# Altium footprint library SamacSys.PcbLib: 8 footprints
Each footprint in its own frame and in the unit in brackets; x right, y up, seen from the top. Pads: shape width x height; smd on the part's side, far side on the other; paste and mask are expansions set on the pad; w line width, h text height; cw(c..) or ccw(c..) is an arc to the next point about the centre after c.
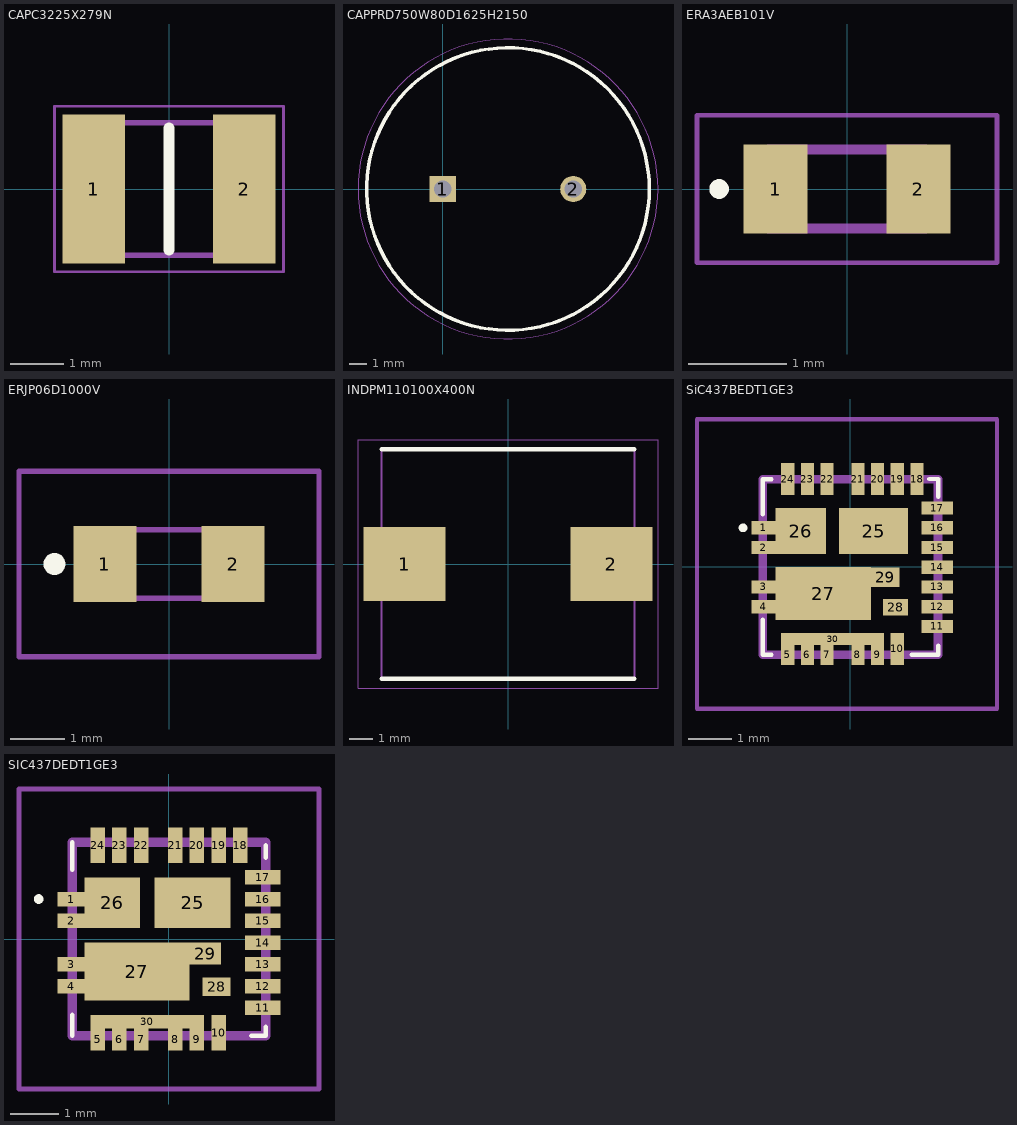
[diagram p0: the footprints below, top view; thin cyan lines are the x and y axes]

## CAPC3225X279N [mm]
pads (2):
  rect 1.18x2.82 smd: 1(-1.42,0) 2(1.42,0)
Top Overlay:
  lines w0.2: 0,-1.15 0,1.15
Mechanical 13:
  lines w0.1: -1.6,-1.25 1.6,-1.25 1.6,1.25 -1.6,1.25 -1.6,-1.25
Mechanical 15:
  lines w0.05: -2.16,-1.56 2.16,-1.56 2.16,1.56 -2.16,1.56 -2.16,-1.56
3D body "1210YD476KAT4A.stp": height 2.79, standoff 0, extent -1.6,-1.25 1.6,1.25

## CAPPRD750W80D1625H2150 [mm]
pads (2):
  rect 1.5x1.5 hole 1: 1(0,0)
  round 1.5 hole 1: 2(7.5,0)
Top Overlay:
  circle w0.2: c3.75,0 r8.125
Mechanical 13:
  circle w0.1: c3.75,0 r8.125
Mechanical 15:
  circle w0.05: c3.75,0 r8.625
3D body "UCS2C151MHD.stp": height 21.5, standoff -10, extent -4.5,-8.238 12,8.238

## ERA3AEB101V [mm]
pads (2):
  rect 0.65x0.9 smd: 1(-0.725,0) 2(0.725,0)
Top Overlay:
  lines w0.1: -1.3,-0.05 ccw(c-1.3,0) -1.3,0.05 ccw(c-1.3,0) -1.3,-0.05
Mechanical 13:
  lines w0.1: -0.8,-0.4 -0.8,0.4 0.8,0.4 0.8,-0.4 -0.8,-0.4
Mechanical 15:
  lines w0.05: -1.525,-0.75 -1.525,0.75 1.525,0.75 1.525,-0.75 -1.525,-0.75
3D body "ERA-3AED104V.stp": height 0.45, standoff 0, extent -0.8,-0.4 0.8,0.4

## ERJP06D1000V [mm]
pads (2):
  rect 1.15x1.4 smd: 1(-1.175,0) 2(1.175,0)
Top Overlay:
  lines w0.2: -2.1,-0.1 ccw(c-2.1,0) -2.1,0.1 ccw(c-2.1,0) -2.1,-0.1
Mechanical 13:
  lines w0.1: -1,-0.625 -1,0.625 1,0.625 1,-0.625 -1,-0.625
Mechanical 15:
  lines w0.1: -2.75,-1.7 -2.75,1.7 2.75,1.7 2.75,-1.7 -2.75,-1.7
3D body "ERJ-P06F5623V.stp": height 0.6, standoff 0, extent -1,-0.625 1,0.625

## INDPM110100X400N [mm]
pads (2):
  rect 3.55x3.2 smd: 1(-4.5,0) 2(4.5,0)
Top Overlay:
  lines w0.2: -5.5,-5 5.5,-5 ; -5.5,5 5.5,5
Mechanical 13:
  lines w0.1: -5.5,-5 -5.5,5 5.5,5 5.5,-5 -5.5,-5
Mechanical 15:
  lines w0.05: -6.525,-5.4 -6.525,5.4 6.525,5.4 6.525,-5.4 -6.525,-5.4
3D body "SRP1038CC-2R2M.stp": height 4, standoff 0, extent -5.5,-5 5.5,5

## PCBComponent_1 [mm]

## SiC437BEDT1GE3 [mm]
pads (30):
  rect 0.55x0.3 smd: 1(-1.981,0.894) 2(-1.981,0.444) 3(-1.981,-0.456) 4(-1.981,-0.906)
  rect 0.3x0.45 smd: 5(-1.431,-2.006) 6(-0.981,-2.006) 7(-0.531,-2.006) 8(0.169,-2.006) 9(0.619,-2.006)
  rect 0.3x0.725 smd: 10(1.069,-1.869) 18(1.519,2.006) 19(1.069,2.006) 20(0.619,2.006) 21(0.169,2.006) 22(-0.531,2.006) 23(-0.981,2.006) 24(-1.431,2.006)
  rect 0.725x0.3 smd: 11(1.981,-1.356) 12(1.981,-0.906) 13(1.981,-0.456) 14(1.981,-0.006) 15(1.981,0.444) 16(1.981,0.894) 17(1.981,1.344)
  rect 1.575x1.05 smd: 25(0.531,0.819)
  rect 1.15x1.05 smd: 26(-1.131,0.819)
  rect 2.175x1.2 smd: 27(-0.619,-0.606)
  rect 0.58x0.38 smd: 28(1.029,-0.921)
  rect 0.65x0.455 smd: 29(0.794,-0.234)
  rect 2.35x0.275 smd: 30(-0.406,-1.644)
Top Overlay:
  lines w0.1: -2,-1.2 -2,-2.006 -1.8,-2.006 ; -2,1.2 -2,2 -1.8,2 ; 1.4,-2.006 2,-2.006 2,-1.8 ; 1.8,2.006 2,2.006 2,1.6 ; -2.5,0.894 ccw(c-2.45,0.894) -2.4,0.894 ccw(c-2.45,0.894) -2.5,0.894
Mechanical 13:
  lines w0.2: -2,-2 -2,2 2,2 2,-2 -2,-2
Mechanical 15:
  lines w0.1: -3.5,-3.232 -3.5,3.368 3.344,3.368 3.344,-3.232 -3.5,-3.232
3D body "SiC437BED-T1-GE3.stp": height 0.9, standoff 0, extent -2,-2 2,2

## SIC437DEDT1GE3 [mm]
pads (30):
  rect 0.55x0.3 smd: 1(-2.024,0.826) 2(-2.024,0.376) 3(-2.024,-0.524) 4(-2.024,-0.974)
  rect 0.3x0.45 smd: 5(-1.474,-2.074) 6(-1.024,-2.074) 7(-0.574,-2.074) 8(0.126,-2.074) 9(0.576,-2.074)
  rect 0.3x0.73 smd: 10(1.026,-1.934)
  rect 0.725x0.3 smd: 11(1.938,-1.424) 12(1.938,-0.974) 13(1.938,-0.524) 14(1.938,-0.074) 15(1.938,0.376) 16(1.938,0.826) 17(1.938,1.276)
  rect 0.3x0.725 smd: 18(1.476,1.938) 19(1.026,1.938) 20(0.576,1.938) 21(0.126,1.938) 22(-0.574,1.938) 23(-1.024,1.938) 24(-1.474,1.938)
  rect 1.575x1.05 smd: 25(0.488,0.751)
  rect 1.15x1.05 smd: 26(-1.174,0.751)
  rect 2.175x1.2 smd: 27(-0.662,-0.674)
  rect 0.58x0.38 smd: 28(0.986,-0.989)
  rect 0.65x0.455 smd: 29(0.751,-0.302)
  rect 2.35x0.275 smd: 30(-0.449,-1.712)
Top Overlay:
  lines w0.1: -2.643,0.826 cw(c-2.693,0.826) -2.743,0.826 cw(c-2.692,0.826) -2.642,0.826 ; -2,-2 -2,-1.568 ; -2,1.432 -2,2 ; 1.707,-2 2,-2 2,-1.934 2,-1.818 ; 2,1.682 2,1.932
Mechanical 13:
  lines w0.2: -2,-2 -2,2 2,2 2,-2 -2,-2
Mechanical 15:
  lines w0.1: -3.099,-3.099 -3.099,3.1 3.1,3.1 3.1,-3.099 -3.099,-3.099
3D body "SiC437AED-T1-GE3.stp": height 0.77, standoff 0, extent -2,-2 2,2